# EAGLE library part RJ12 (library components)
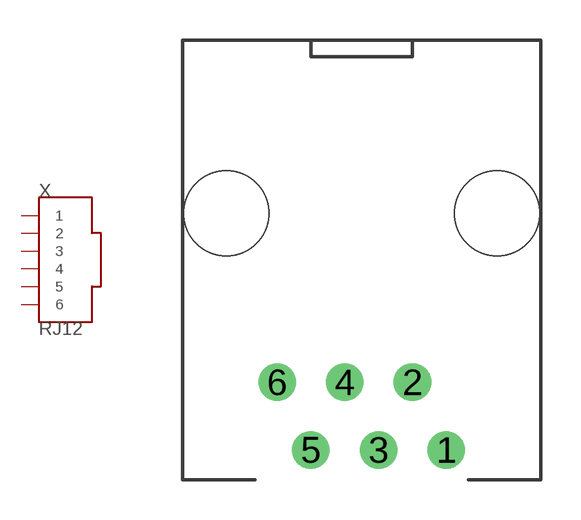
[diagram p0: symbol with the pads of RJ12; footprint RJ12]

Designator prefix X

## RJ12 (VALUE: RJ12)  [RJ12]
1  1
2  2
3  3
4  4
5  5
6  6

## Footprint RJ12 (pad centres in mm)
drill 0.9: 1 3.175,-15.39; 2 1.905,-12.85; 3 0.635,-15.39; 4 -0.635,-12.85; 5 -1.905,-15.39; 6 -3.175,-12.85
hole 3.2 at -5.08,-6.5
hole 3.2 at 5.08,-6.5